# EAGLE library part MAX1673ESA (library BBB_ADS1271_front_panel)
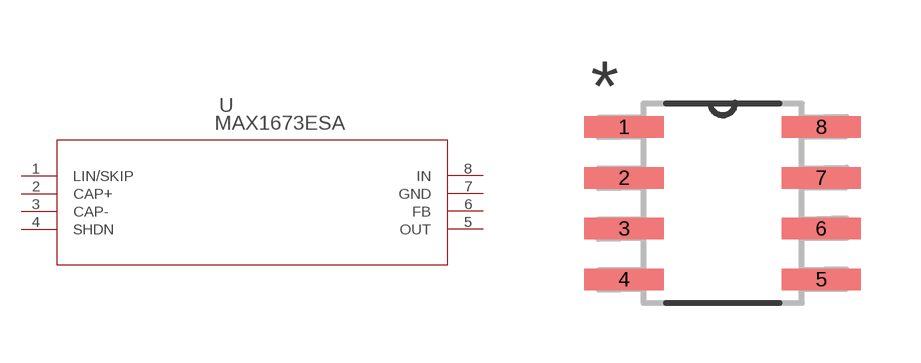
[diagram p4: symbol with the pads of MAX1673ESA_T_; footprint MAX1673ESA_T_]

Designator prefix -

## MAX1673ESA  [MAX1673ESA_T_]
1  LIN/SKIP
2  CAP+
3  CAP-
4  SHDN
5  OUT  out
6  FB
7  GND  pwr
8  IN  in

## Footprint MAX1673ESA_T_ (pad centres in mm)
smd 1.981 x 0.533: 1 -2.464,1.905; 2 -2.464,0.635; 3 -2.464,-0.635; 4 -2.464,-1.905; 5 2.464,-1.905; 6 2.464,-0.635; 7 2.464,0.635; 8 2.464,1.905